# Altium footprint library 4020.PcbLib: 1 footprints
Each footprint in its own frame and in the unit in brackets; x right, y up, seen from the top. Pads: shape width x height; smd on the part's side, far side on the other; paste and mask are expansions set on the pad; w line width, h text height; cw(c..) or ccw(c..) is an arc to the next point about the centre after c.
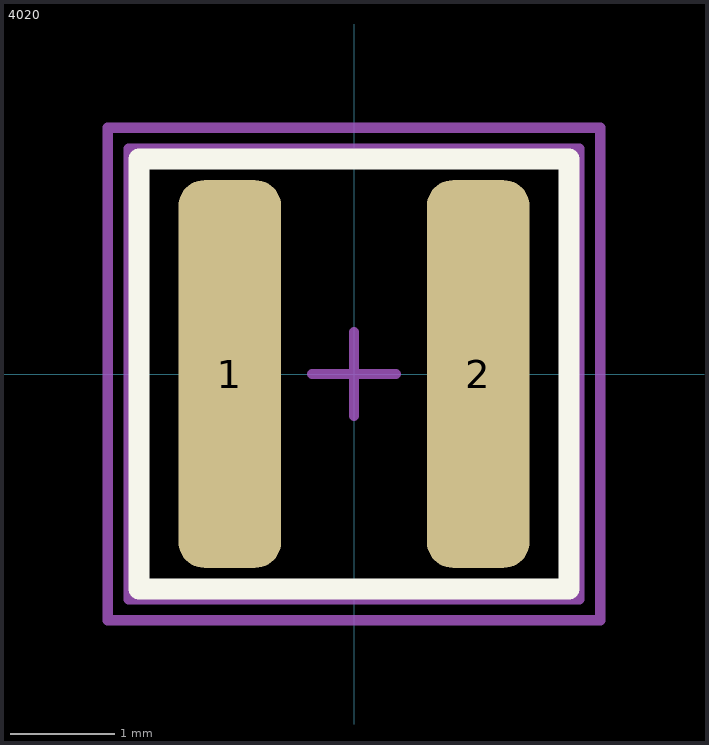
[diagram p0: the footprint, top view; thin cyan lines are the x and y axes]

## 4020 [mm] "WE-MAPI 4020 Power Inductor 4x4x3mm"
height 3.1
pads (2):
  rrect50% 0.98x3.7 smd mask+0: 1(-1.185,0) 2(1.185,0)
Top Overlay:
  lines w0.2: -2.05,-2.05 -2.05,2.05 2.05,2.05 2.05,-2.05 -2.05,-2.05
Mechanical 11:
  lines w0.1: -2.05,-2.05 2.05,-2.05 2.05,2.05 -2.05,2.05 -2.05,-2.05
Mechanical 14:
  lines w0.1: -2.15,-2.15 2.15,-2.15 2.15,2.15 -2.15,2.15 -2.15,-2.15
Mechanical 15:
  lines w0.1: -0.4,0 0.4,0 ; 0,-0.4 0,0.4 ; -2.35,-2.35 2.35,-2.35 2.35,2.35 -2.35,2.35 -2.35,-2.35
Mechanical 17:
  text "'.Designator'" at -1.651,0 h0.3
3D body "IndMAPI_4030_74438357xxx.stp": height 3.12, standoff 0.02, extent -2.05,-2.05 2.05,2.05